# EAGLE library part PCT2075DP (library Other)
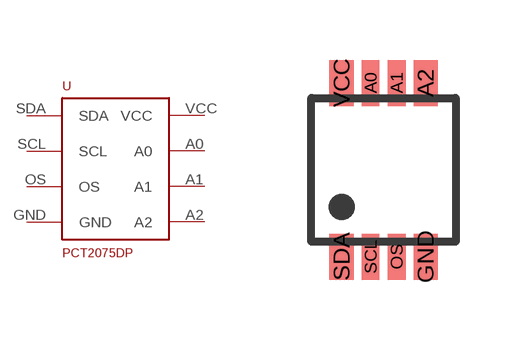
[diagram p11: symbol with the pads of TSSOP8; footprint TSSOP8]

Designator prefix -

## PCT2075DP""  [TSSOP8]
A0  A0
A1  A1
A2  A2
GND  GND
OS  OS
SCL  SCL
SDA  SDA
VCC  VCC

## Footprint TSSOP8 (pad centres in mm)
Plastic Small Outline
smd 0.45 x 1.15: A0 -0.325,2.175; A1 0.325,2.175; OS 0.325,-2.175; SCL -0.325,-2.175
smd 0.6 x 1.15: A2 1.05,2.175; GND 1.05,-2.175; SDA -1.05,-2.175; VCC -1.05,2.175